# Altium footprint library mine.PcbLib: 5 footprints
Each footprint in its own frame and in the unit in brackets; x right, y up, seen from the top. Pads: shape width x height; smd on the part's side, far side on the other; paste and mask are expansions set on the pad; w line width, h text height; cw(c..) or ccw(c..) is an arc to the next point about the centre after c.
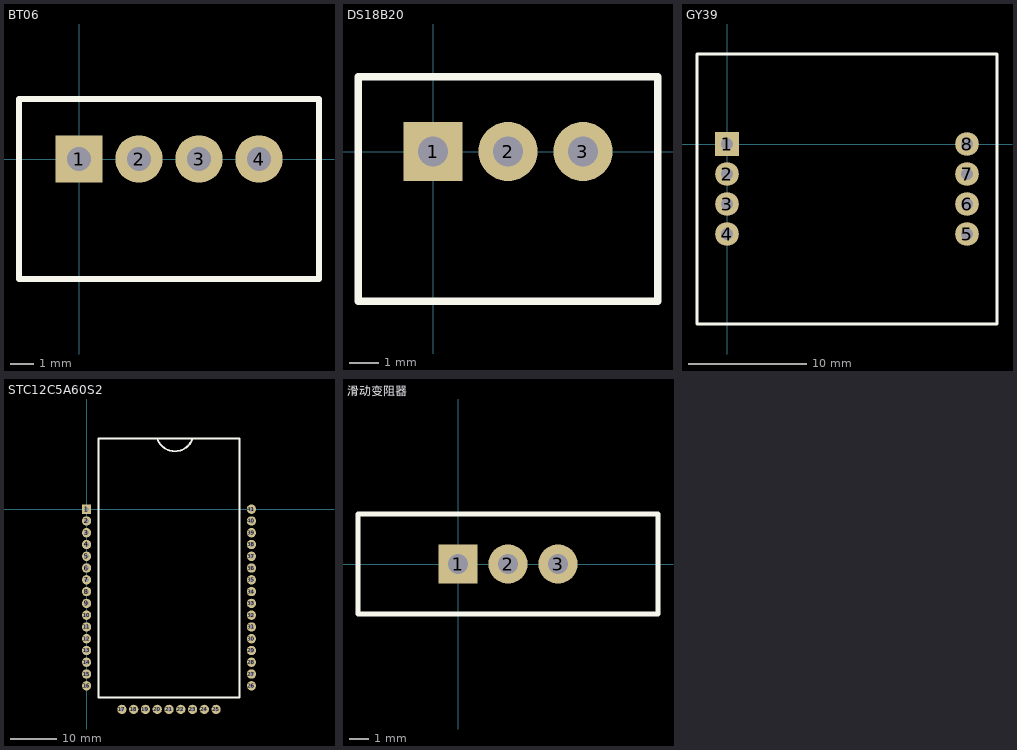
[diagram p0: the footprints below, top view; thin cyan lines are the x and y axes]

## BT06 [mm]
pads (4):
  rect 2x2 hole 1: 1(0,0)
  round 2 hole 1: 2(2.54,0) 3(5.08,0) 4(7.62,0)
Top Overlay:
  lines w0.254: -2.54,-5.08 -2.54,2.54 10.16,2.54 10.16,-5.08 -2.54,-5.08

## DS18B20 [mm]
pads (3):
  rect 2x2 hole 1: 1(0,0)
  round 2 hole 1: 2(2.54,0) 3(5.08,0)
Top Overlay:
  lines w0.254: -2.54,-5.08 7.62,-5.08 7.62,2.54 -2.54,2.54 -2.54,-5.08

## GY39 [mm]
pads (8):
  rect 2x2 hole 1: 1(0,0)
  round 2 hole 1: 2(0,-2.54) 3(0,-5.08) 4(0,-7.62) 5(20.32,-7.62) 6(20.32,-5.08) 7(20.32,-2.54) 8(20.32,0)
Top Overlay:
  lines w0.254: -2.54,-15.24 -2.54,-12.7 -2.54,2.54 -2.54,7.62 22.86,7.62 22.86,0 22.86,-3.81 22.86,-6.35 22.86,-10.16 22.86,-12.7 22.86,-15.24 -2.54,-15.24

## STC12C5A60S2 [mm]
pads (41):
  rect 2x2 hole 1: 1(0,0)
  round 2 hole 1: 2(0,-2.54) 3(0,-5.08) 4(0,-7.62) 5(0,-10.16) 6(0,-12.7) 7(0,-15.24) 8(0,-17.78) 9(0,-20.32) 10(0,-22.86) 11(0,-25.4) 12(0,-27.94) 13(0,-30.48) 14(0,-33.02) 15(0,-35.56) 16(0,-38.1) 17(7.62,-43.18) 18(10.16,-43.18) 19(12.7,-43.18) 20(15.24,-43.18) 21(17.78,-43.18) 22(20.32,-43.18) 23(22.86,-43.18) 24(25.4,-43.18) 25(27.94,-43.18) 26(35.56,-38.1) 27(35.56,-35.56) 28(35.56,-33.02) 29(35.56,-30.48) 30(35.56,-27.94) 31(35.56,-25.4) 32(35.56,-22.86) 33(35.56,-20.32) 34(35.56,-17.78) 35(35.56,-15.24) 36(35.56,-12.7) 37(35.56,-10.16) 38(35.56,-7.62) 39(35.56,-5.08) 40(35.56,-2.54) 41(35.56,0)
Top Overlay:
  lines w0.4: 15.24,15.24 ccw(c19.05,16.51) 22.86,15.24 ; 2.54,-40.64 2.54,15.24 33.02,15.24 33.02,-40.64 2.54,-40.64

## 滑动变阻器 [mm]
pads (3):
  rect 2x2 hole 1: 1(0,0)
  round 2 hole 1: 2(2.54,0) 3(5.08,0)
Top Overlay:
  lines w0.254: -5.08,-2.54 -5.08,2.54 10.16,2.54 10.16,-2.54 -5.08,-2.54